# Altium schematic symbol library MD20.SchLib: 1 symbol
Pins are listed as number, name and electrical type; pins without a type are passive.

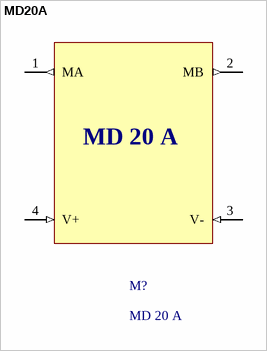
[diagram p0: symbol MD20A]

## MD20A
designator M?, comment MD 20 A
footprint MD20A
pins: 1 MA (out), 2 MB (out), 3 V- (in), 4 V+ (in)